# Altium integrated library WRME-FIMM_1769205132.IntLib: 1 symbol
Pins are listed as number, name and electrical type; pins without a type are passive.

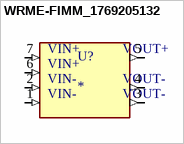
[diagram p0: symbol WRME-FIMM_1769205132]

## WRME-FIMM_1769205132
designator U?
LGA-7 / 5Vin / 5Vout / 1W / 3kV / 9 x 7 x 3.1mm / short circuit protection; MF: Wurth Elektronik; MP: 1769205132; SnapEDA_Link: https://www.snapeda.com/parts/1769205132/Wurth+Electronics/view-part/?ref=snap; Package: None; Value: *; Check_prices: https://www.snapeda.com/parts/1769205132/Wurth+Electronics/view-part/?ref=eda
footprint WRME-FIMM_1769205132
pins: 1 (in), 2 (in), 3 (out), 4 (out), 5 (out), 6 (in), 7 (in)
text: VIN+; VOUT+; VIN-; VOUT-